# EAGLE library part M68882PGA (library 030Card)
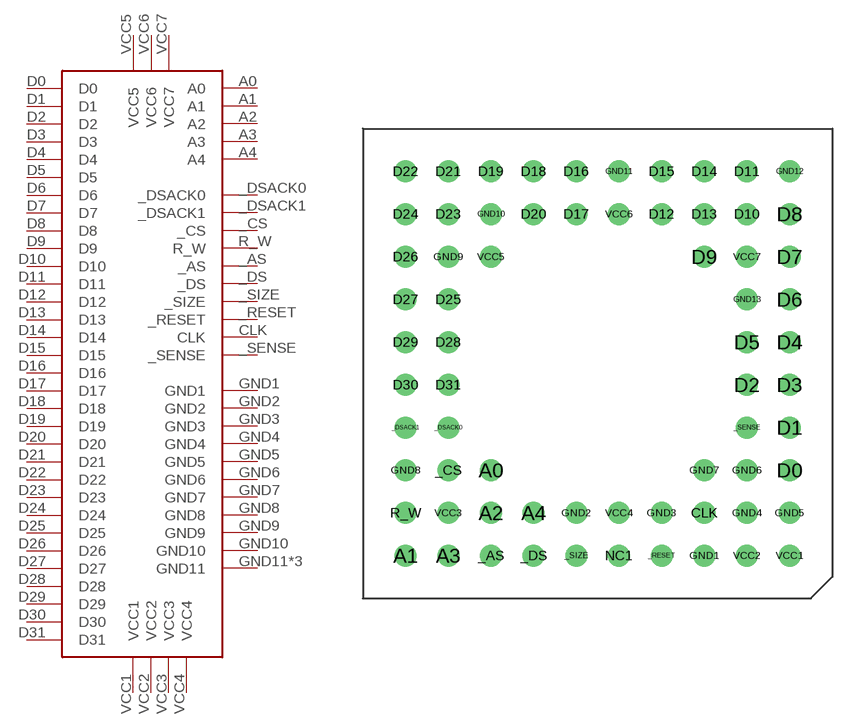
[diagram p3: symbol with the pads of M68882PGA; footprint M68882PGA]

Designator prefix -

## M68882PGA  [M68882PGA]
_AS  _AS
_CS  _CS
_DS  _DS
_DSACK0  _DSACK0
_DSACK1  _DSACK1
_RESET  _RESET
_SENSE  _SENSE
_SIZE  _SIZE
A0  A0
A1  A1
A2  A2
A3  A3
A4  A4
CLK  CLK
D0  D0
D1  D1
D2  D2
D3  D3
D4  D4
D5  D5
D6  D6
D7  D7
D8  D8
D9  D9
D10  D10
D11  D11
D12  D12
D13  D13
D14  D14
D15  D15
D16  D16
D17  D17
D18  D18
D19  D19
D20  D20
D21  D21
D22  D22
D23  D23
D24  D24
D25  D25
D26  D26
D27  D27
D28  D28
D29  D29
D30  D30
D31  D31
GND1  GND1
GND2  GND2
GND3  GND3
GND4  GND4
GND5  GND5
GND6  GND6
GND7  GND7
GND8  GND8
GND9  GND9
GND10  GND10
GND11  GND11
GND12  GND11
GND13  GND11
R_W  R_W
VCC1  VCC1
VCC2  VCC2
VCC3  VCC3
VCC4  VCC4
VCC5  VCC5
VCC6  VCC6
VCC7  VCC7

## Footprint M68882PGA (pad centres in mm)
drill 0.8: _AS -10.16,-5.08; _CS -12.7,0; _DS -7.62,-5.08; _DSACK0 -12.7,2.54; _DSACK1 -15.24,2.54; _RESET 0,-5.08; _SENSE 5.08,2.54; _SIZE -5.08,-5.08; A0 -10.16,0; A1 -15.24,-5.08; A2 -10.16,-2.54; A3 -12.7,-5.08; A4 -7.62,-2.54; CLK 2.54,-2.54; D0 7.62,0; D1 7.62,2.54; D2 5.08,5.08; D3 7.62,5.08; D4 7.62,7.62; D5 5.08,7.62; D6 7.62,10.16; D7 7.62,12.7; D8 7.62,15.24; D9 2.54,12.7; D10 5.08,15.24; D11 5.08,17.78; D12 0,15.24; D13 2.54,15.24; D14 2.54,17.78; D15 0,17.78; D16 -5.08,17.78; D17 -5.08,15.24; D18 -7.62,17.78; D19 -10.16,17.78; D20 -7.62,15.24; D21 -12.7,17.78; D22 -15.24,17.78; D23 -12.7,15.24; D24 -15.24,15.24; D25 -12.7,10.16; D26 -15.24,12.7; D27 -15.24,10.16; D28 -12.7,7.62; D29 -15.24,7.62; D30 -15.24,5.08; D31 -12.7,5.08; GND1 2.54,-5.08; GND2 -5.08,-2.54; GND3 0,-2.54; GND4 5.08,-2.54; GND5 7.62,-2.54; GND6 5.08,0; GND7 2.54,0; GND8 -15.24,0; GND9 -12.7,12.7; GND10 -10.16,15.24; GND11 -2.54,17.78; GND12 7.62,17.78; GND13 5.08,10.16; NC1 -2.54,-5.08; R_W -15.24,-2.54; VCC1 7.62,-5.08; VCC2 5.08,-5.08; VCC3 -12.7,-2.54; VCC4 -2.54,-2.54; VCC5 -10.16,12.7; VCC6 -2.54,15.24; VCC7 5.08,12.7